# Altium schematic symbol library pico-clasp-7.SchLib: 1 symbol
Pins are listed as number, name and electrical type; pins without a type are passive.

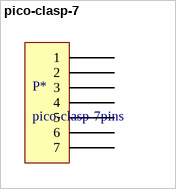
[diagram p0: symbol pico-clasp-7]

## pico-clasp-7
designator P*, comment pico-clasp-7pins
7 pins pico clasp; Designator: P*
footprint 7 pins pico-clasp
pins: 1, 2, 3, 4, 5, 6, 7